# Altium schematic symbol library CON_1X8.SchLib: 1 symbol
Pins are listed as number, name and electrical type; pins without a type are passive.

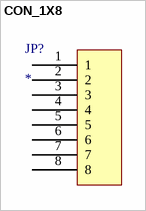
[diagram p0: symbol CON_1X8]

## CON_1X8
designator JP?
pins: 1, 2, 3, 4, 5, 6, 7, 8